# Altium schematic symbol library NetTie.Schlib: 1 symbol
Pins are listed as number, name and electrical type; pins without a type are passive.

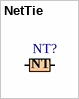
[diagram p0: symbol NetTie]

## NetTie
designator NT?  (net tie, no BOM)
Net Tie
pins: 1, 2
text: NT